# Altium footprint library Connectors.PcbLib: 56 footprints (part 1 of 4)
Each footprint in its own frame and in the unit in brackets; x right, y up, seen from the top. Pads: shape width x height; smd on the part's side, far side on the other; paste and mask are expansions set on the pad; w line width, h text height; cw(c..) or ccw(c..) is an arc to the next point about the centre after c.
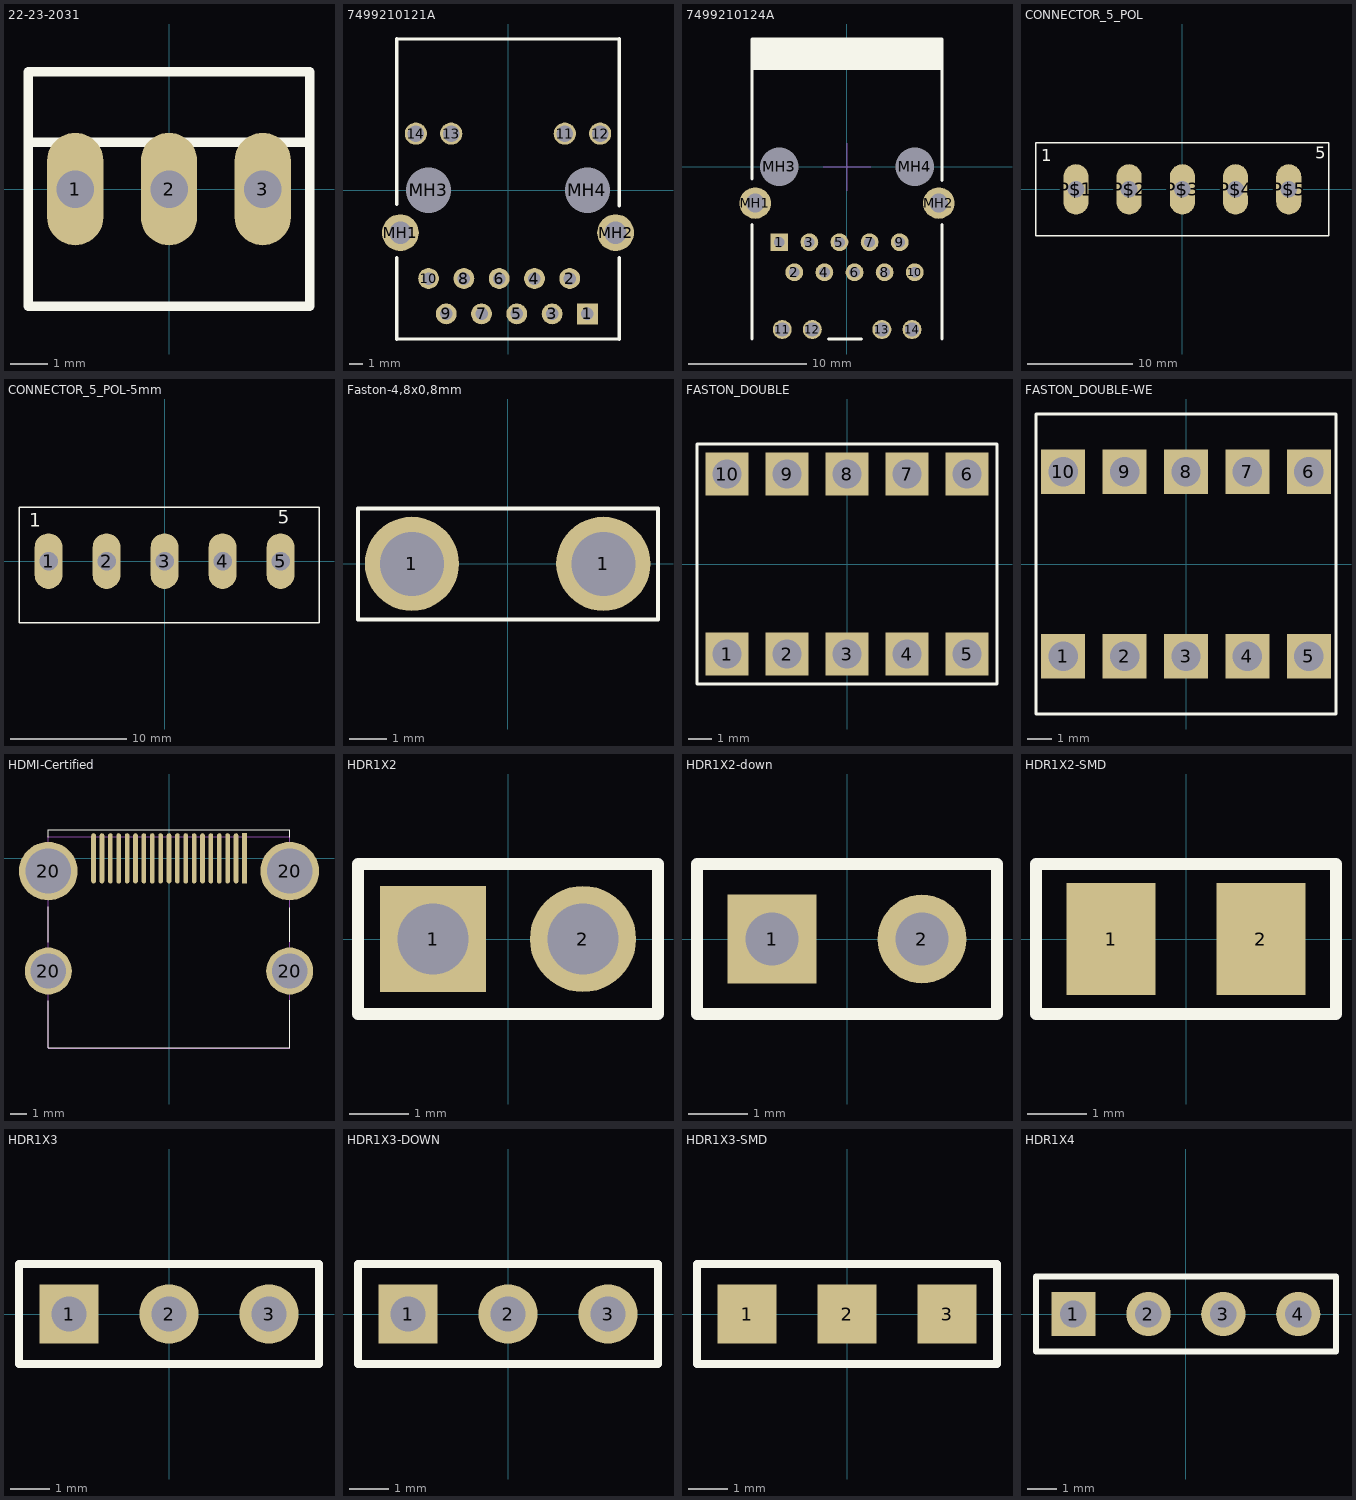
[diagram p0: the footprints below, top view; thin cyan lines are the x and y axes]

## 22-23-2031 [mil] "22-23-2031"
pads (3):
  oval 60x120 hole 40: 1(-100,0) 2(0,0) 3(100,0)
Top Overlay:
  lines w10: -150,50 -150,-125 150,-125 150,50 ; -150,50 -150,125 150,125 150,50 ; -150,50 150,50
3D body: height 354.33, standoff 3.94, extent -150,50 149.61,124.41
3D body "61300311121.stp": height 339.37, standoff -114.96, extent -149.6,-51.97 150.4,48.03

## 7499210121A [mm] "Connector; PCB Jack, Thru-Hole; RJ45,POE; Shielded with Lightpipes; Right Angle"
height 13.53
pads (18):
  rect 1.5x1.5 hole 0.9: 1(5.715,-8.89)
  round 1.5 hole 0.9: 2(4.445,-6.35) 3(3.175,-8.89) 4(1.905,-6.35) 5(0.635,-8.89) 6(-0.635,-6.35) 7(-1.905,-8.89) 8(-3.175,-6.35) 9(-4.445,-8.89) 10(-5.715,-6.35)
  round 1.6 hole 1.2: 11(4.09,4.08) 12(6.63,4.08) 13(-4.09,4.08) 14(-6.63,4.08)
  round 2.65 hole 1.6: MH1(-7.745,-3.05) MH2(7.745,-3.05)
  round 2.95 hole 3.25 unplated: MH3(-5.715,0) MH4(5.715,0)
Top Overlay:
  lines w0.2: -8.02,-10.7 8.02,-10.7 ; -8.02,10.89 8.02,10.89
  lines w0.254: -8.02,-10.7 -8.02,-4.845 ; -8.02,-0.997 -8.02,10.89 ; 8.02,-10.7 8.02,-4.845 ; 8.02,-1.124 8.02,10.89
3D body: height 1, standoff 0, extent -6.731,10.922 -4.191,11.176
3D body: height 1, standoff 0, extent 3.81,10.922 6.35,11.176
3D body "7499210121A.stp": height 13.68, standoff -3.28, extent -8.04,-10.92 8.04,10.92

## 7499210124A [mm] "Connector; PCB Jack, Thru-Hole; RJ45,POE; Shielded with Lightpipes; Right Angle"
height 13.53
pads (18):
  rect 1.5x1.5 hole 0.9: 1(-5.715,-6.35)
  round 1.5 hole 0.9: 2(-4.445,-8.89) 3(-3.175,-6.35) 4(-1.905,-8.89) 5(-0.635,-6.35) 6(0.635,-8.89) 7(1.905,-6.35) 8(3.175,-8.89) 9(4.445,-6.35) 10(5.715,-8.89)
  round 1.6 hole 1.2: 11(-5.465,-13.72) 12(-2.925,-13.72) 13(2.946,-13.72) 14(5.486,-13.72)
  round 2.65 hole 1.6: MH1(-7.745,-3.05) MH2(7.745,-3.05)
  round 2.95 hole 3.25 unplated: MH3(-5.715,0) MH4(5.715,0)
Top Overlay:
  rectangle: -8.02,8.18 8.02,10.78
  lines w0.254: -8.02,-14.5 -8.02,-4.845 ; -8.02,-0.997 -8.02,10.78 -8,10.8 ; -1.56,-14.5 1.21,-14.5 ; 8.02,-14.5 8.02,-4.845 ; 8.02,-1.124 8.02,10.8
  lines w0.255: -8,10.8 8.02,10.8
Mechanical 16:
  lines w0.05: -2,0 2,0 ; 0,-2 0,2
3D body "7499210124A.stp": height 13.81, standoff -3.24, extent -8.27,-14.51 8.13,10.79

## CONNECTOR_5_POL [mil] "CONNECTOR_5_POL"
pads (5):
  oval 94.5x189 hole 63: P$1(-400,0) P$2(-200,0) P$3(0,0) P$4(200,0) P$5(400,0)
Top Overlay:
  lines w5: -550,-175 -550,175 550,175 550,-175 -550,-175
  text "1" at -530,90 h77.5
  text "5" at 500,100 h77.5

## CONNECTOR_5_POL-5mm [mil] "Phoenix Contact 1715187"
pads (5):
  oval 94.5x189 hole 63: 1(-393.7,0) 2(-196.85,0) 3(0,0) 4(196.85,0) 5(393.7,0)
Top Overlay:
  lines w5: -494.09,-208.27 524.02,-208.27 524.02,182.68 -494.09,182.68 -494.09,-208.27
  text "5" at 384.65,111.42 h77.5
  text "1" at -459.45,101.97 h77.5
3D body "1715187.stp": height 543.31, standoff -137.8, extent -490.96,-205.51 522.46,180.31

## Faston-4,8x0,8mm [mm] "TE, 1-726388-2"
height 8.5
pads (2):
  round 2.5 hole 1.7: 1(-2.54,0) 1(2.54,0)
Top Overlay:
  lines w0.1: -3.97,-1.48 3.99,-1.48 3.99,1.47 -3.97,1.47 -3.97,-1.48
3D body "c-0726388-12-e1-3d.stp": height 13.1, standoff -0.7, extent -3.2,-0.4 3.2,0.4

## FASTON_DOUBLE [mil] "FASTON_DOUBLE"
pads (10):
  rect 72x72 hole 48: 1(-200,-150) 2(-100,-150) 3(0,-150) 4(100,-150) 5(200,-150) 6(200,150) 7(100,150) 8(0,150) 9(-100,150) 10(-200,150)
Top Overlay:
  lines w5: -250,-200 250,-200 250,200 -250,200 -250,-200
3D body: height 551.18, standoff 15.75, extent -249.21,-200 250,200

## FASTON_DOUBLE-WE [mil] "We-7460553"
pads (10):
  rect 72x72 hole 48: 1(-200,-150) 2(-100,-150) 3(0,-150) 4(100,-150) 5(200,-150) 6(200,150) 7(100,150) 8(0,150) 9(-100,150) 10(-200,150)
Top Overlay:
  lines w5: -244.09,-244.09 -244.09,244.09 244.09,244.09 244.09,-244.09 -244.09,-244.09
3D body: height 551.18, standoff 15.75, extent -243.7,-244.09 244.49,244.44

## HDMI-Certified [mm] "Molex,47151-0001"
height 6.1
pads (23):
  rect 0.28x3 smd: 1(4.5,0)
  oval 0.28x3 smd: 2(4,0) 3(3.5,0) 4(3,0) 5(2.5,0) 6(2,0) 7(1.5,0) 8(1,0) 9(0.5,0) 10(0,0) 11(-0.5,0) 12(-1,0) 13(-1.5,0) 14(-2,0) 15(-2.5,0) 16(-3,0) 17(-3.5,0) 18(-4,0) 19(-4.5,0)
  round 2.8 hole 2.1: 20(-7.2,-6.72) 20(7.2,-6.72)
  round 3.5 hole 2.7: 20(-7.2,-0.76) 20(7.2,-0.76)
Top Overlay:
  lines w0.05: -7.21,1.26 -7.21,1.7 7.19,1.7 7.2,1.7 7.2,1.27 ; -7.2,-8.48 -7.2,-11.31 7.2,-11.31 7.2,-8.45 ; -7.2,-5 -7.2,-2.89 ; 7.2,-4.97 7.2,-2.96 7.21,-2.96
Mechanical 1:
  lines w0.05: -7.2,-11.32 -7.2,1.3 7.2,1.3 7.2,-11.32 -7.2,-11.32
3D body "471510001.stp": height 6.28, standoff -2.1, extent -7.5,-11.31 7.5,0.84

## HDR1X2 [mm] "Connector; Header; 2 Position"
pads (2):
  rect 1.8x1.8 hole 1.2: 1(-1.27,0)
  round 1.8 hole 1.2: 2(1.27,0)
Top Overlay:
  lines w0.2: -2.54,-1.27 -2.54,1.27 2.54,1.27 2.54,-1.27 -2.54,-1.27
3D body "61300211121.stp": height 8.62, standoff -2.92, extent -2.54,-1.27 2.54,1.27

## HDR1X2-down [mm] "Connector; Header; 2 Position"
pads (2):
  rect 1.5x1.5 hole 0.9: 1(-1.27,0)
  round 1.5 hole 0.9: 2(1.27,0)
Top Overlay:
  lines w0.2: -2.54,-1.27 2.54,-1.27 2.54,1.27 -2.54,1.27 -2.54,-1.27
3D body "61300211021.STEP": height 2.57, standoff -2.97, extent -2.55,-0.33 2.53,10.03

## HDR1X2-SMD [mm] "Connector; Header; 2 Position"
pads (2):
  rect 1.5x1.9 smd: 1(-1.27,0) 2(1.27,0)
Top Overlay:
  lines w0.2: -2.54,-1.27 2.54,-1.27 2.54,1.27 -2.54,1.27 -2.54,-1.27
3D body: height 2, standoff 0, extent -2.54,-1.27 2.54,5.08

## HDR1X3 [mm] "Connector; Header; 3 Position"
pads (3):
  rect 1.5x1.5 hole 0.9: 1(-2.54,0)
  round 1.5 hole 0.9: 2(0,0) 3(2.54,0)
Top Overlay:
  lines w0.2: -3.81,-1.27 3.81,-1.27 3.81,1.27 -3.81,1.27 -3.81,-1.27
3D body "61300311121.stp": height 8.62, standoff -2.92, extent -3.81,-1.27 3.81,1.27

## HDR1X3-DOWN [mm] "Connector; Header; 3 Position"
pads (3):
  rect 1.5x1.5 hole 0.9: 1(-2.54,0)
  round 1.5 hole 0.9: 2(0,0) 3(2.54,0)
Top Overlay:
  lines w0.2: -3.81,-1.27 -3.81,1.27 3.81,1.27 3.81,-1.27 -3.81,-1.27
3D body "3-Pin-2_54mm.STEP": height 2.57, standoff -2.97, extent -3.81,-0.31 3.81,10.05

## HDR1X3-SMD [mm] "Connector; Header; 3 Position"
pads (3):
  rect 1.5x1.5 smd: 1(-2.54,0) 2(0,0) 3(2.54,0)
Top Overlay:
  lines w0.2: -3.81,-1.27 -3.81,1.27 3.81,1.27 3.81,-1.27 -3.81,-1.27
3D body: height 2, standoff 0, extent -3.81,-1.27 3.81,5.08

## HDR1X4 [mm] "Connector; Header; 4 Position"
pads (4):
  rect 1.5x1.5 hole 0.9: 1(-3.81,0)
  round 1.5 hole 0.9: 2(-1.27,0) 3(1.27,0) 4(3.81,0)
Top Overlay:
  lines w0.2: -5.08,-1.27 -5.08,1.27 5.09,1.27 5.09,-1.27 -5.08,-1.27
3D body "61300211121.stp": height 8.62, standoff -2.92, extent -5.08,-1.27 0,1.27
3D body "61300211121.stp": height 8.62, standoff -2.92, extent 0,-1.31 5.08,1.23